# Altium schematic symbol library WS-SLSU.SchLib: 2 symbols
Pins are listed as number, name and electrical type; pins without a type are passive.

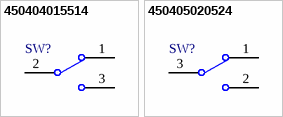
[diagram p0: symbols 450404015514 to 450405020524]

## 450404015514
designator SW?  (value not drawn)
WS-SLSU SMT Mini Slide Switch Same Side Connection Side Push 6.7x2.7 mm, 240g, SPDT; Manufacturer: Wurth Elektronik; Manufacturer Part Number: 450404015514; Category: Slide Switch; Match Code: WS-SLSU; ComponentLink1Description: Website Link; ComponentLink1URL: https://www.we-online.com; ComponentLink2Description: Datasheet Link; ComponentLink2URL: https://www.we-online.com/components/products/datasheet/450404015514; Mount: Surface Mount; Operating Temperature Min: -40degC; Operating Temperature Max: 85degC; Packaging: Tape and Reel; Length: 6.7mm; Width: 2.7mm; Height: 1.1mm; Operation Force: 240g; Schematic: SPDT
footprint 450404015514
pins: 1, 2 COM, 3

## 450405020524
designator SW?  (value not drawn)
WS-SLSU SMT Mini Slide Switch Same Side Connection 8.7x3.0 mm, 225g, SPDT; Manufacturer: Wurth Elektronik; Manufacturer Part Number: 450405020524; Category: Slide Switch; Match Code: WS-SLSU; ComponentLink1Description: Website Link; ComponentLink1URL: https://www.we-online.com; ComponentLink2Description: Datasheet Link; ComponentLink2URL: https://www.we-online.com/components/products/datasheet/450405020524; Mount: Surface Mount; Operating Temperature Min: -40degC; Operating Temperature Max: 85degC; Packaging: Tape and Reel; Length: 8.7mm; Width: 3mm; Height: 2mm; Operation Force: 225g; Schematic: SPDT
footprint 450405020524
pins: 1, 2, 3 COM